# Altium schematic symbol library IC_Texas_Instruments_LM1117MPX-3.3-NOPB_eec.SchLib: 1 symbol
Pins are listed as number, name and electrical type; pins without a type are passive.

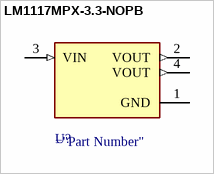
[diagram p0: symbol LM1117MPX-3.3-NOPB]

## LM1117MPX-3.3-NOPB
designator U?  (value not drawn)
pins: 1 GND (power), 2 VOUT (out), 3 VIN (in), 4 VOUT (out)